# Altium footprint library PCB_MOTELIGHT_RADIO_ED02R2_05022020.PcbLib: 33 footprints (part 2 of 3)
Each footprint in its own frame and in the unit in brackets; x right, y up, seen from the top. Pads: shape width x height; smd on the part's side, far side on the other; paste and mask are expansions set on the pad; w line width, h text height; cw(c..) or ccw(c..) is an arc to the next point about the centre after c.
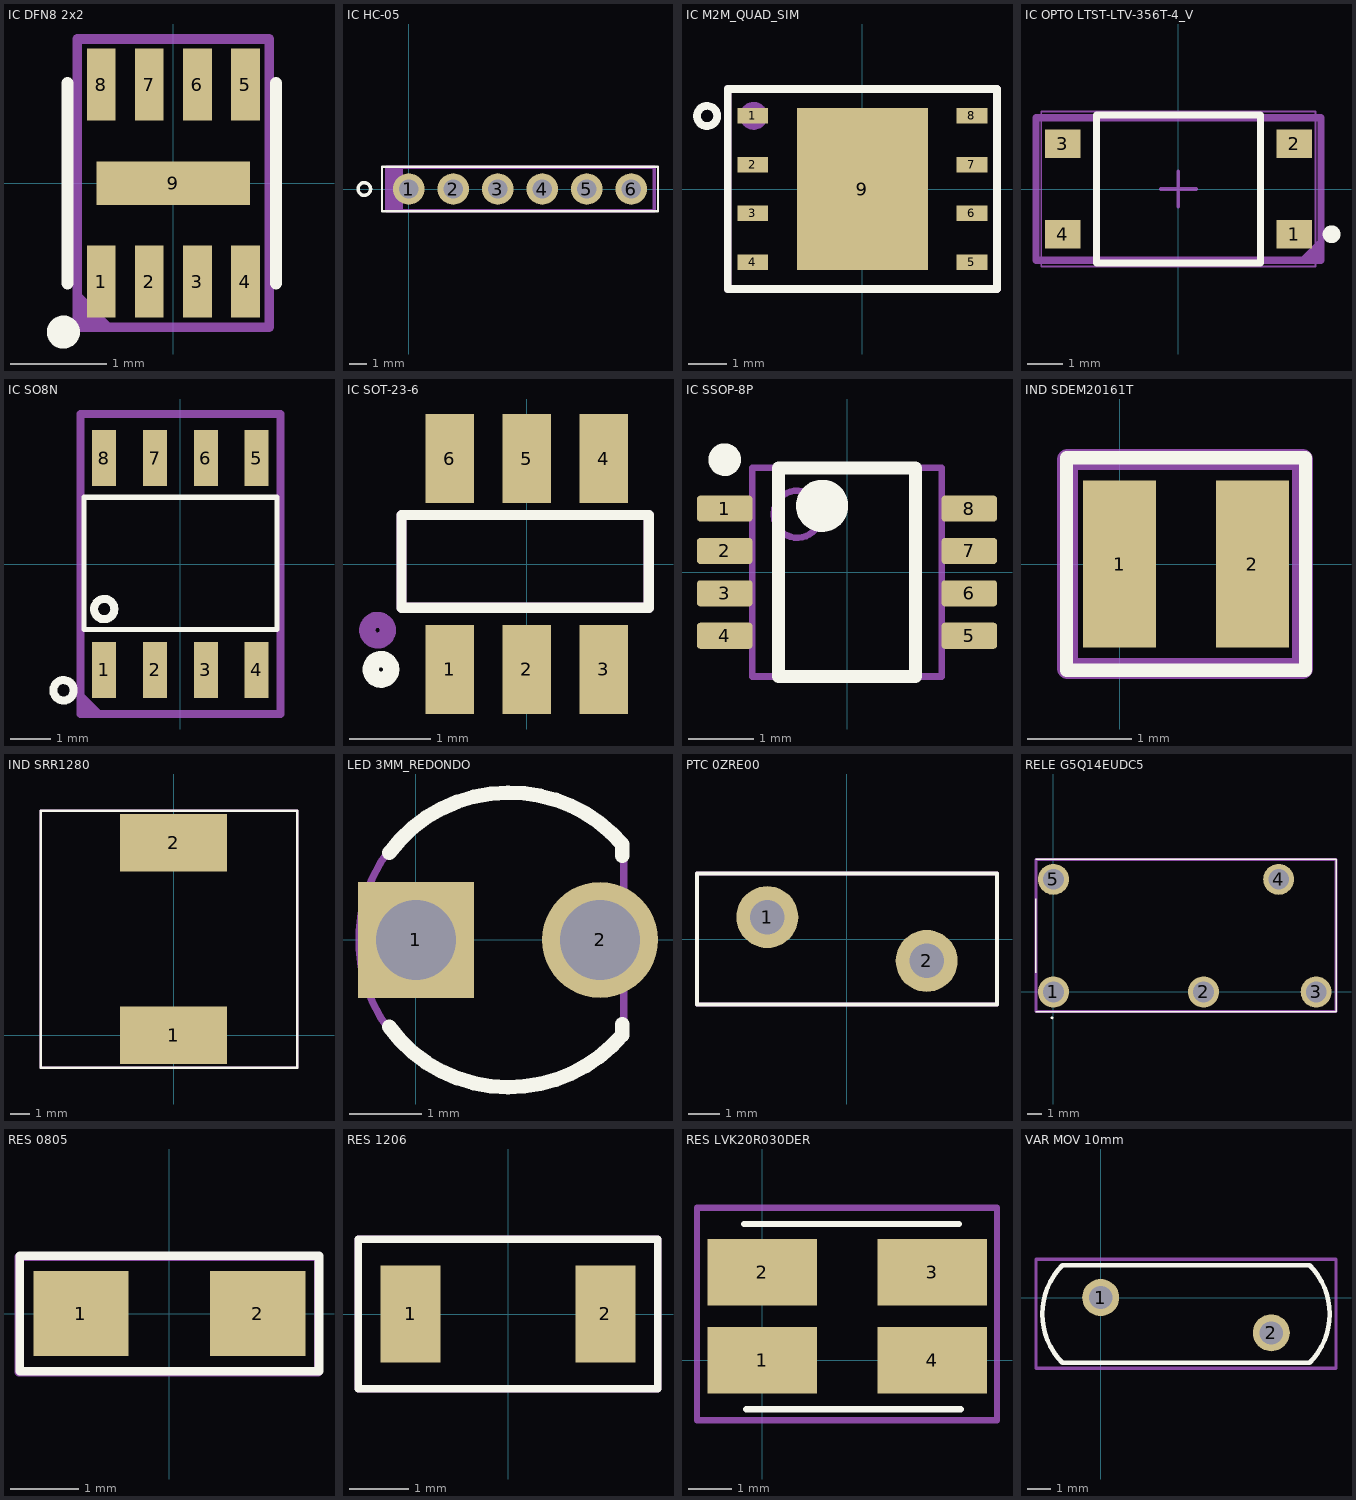
[diagram p1: the footprints below, top view; thin cyan lines are the x and y axes]

## IC DFN8 2x2 [mm] "DFN8 2x2"
pads (9):
  rect 0.3x0.75 smd paste+0 mask+0.025: 1(-0.75,-1.025) 2(-0.25,-1.025) 3(0.25,-1.025) 4(0.75,-1.025) 5(0.75,1.025) 6(0.25,1.025) 7(-0.25,1.025) 8(-0.75,1.025)
  rect 1.6x0.45 smd paste+0 mask+0.025: 9(0,0)
Top Overlay:
  circle w0.2: c-1.143,-1.549 r0.072
  lines w0.127: -1.1,-1.041 -1.1,1.041 ; 1.067,-1.041 1.067,1.041
Top Assembly (Mech29):
  region: -1,-1.5 -0.613,-1.5 -0.991,-1.122 -1,-1.122
  region: 0.25,1.5
  lines w0.1: -1,-1.5 1,-1.5 1,1.5 -1,1.5 -1,-1.5
3D body: height 1, standoff 0.25, extent -1.1,-1.041 1.067,1.041

## IC HC-05 [mm] "FOOTPRINT DO MODULO HC-05 BLUETOOTH"
pads (6):
  round 1.8 hole 1.1 paste+0 mask+0.025: 1(0,0) 2(2.54,0) 3(5.08,0) 4(7.62,0) 5(10.16,0) 6(12.7,0)
Top Overlay:
  circle w0.2: c-2.54,0 r0.359
  lines w0.127: -1.524,-1.27 14.224,-1.27 14.224,1.27 -1.524,1.27 -1.524,-1.27
Top Assembly (Mech29):
  region: -1.25,1.25 -0.344,1.25 -0.344,-1.25 -1.25,-1.25
  lines w0.2: -1.25,-1.25 -1.25,1.25 14,1.25 14,-1.25 -1.25,-1.25
  text "'.Designator'" at 1.021,-0.432 h1.27

## IC M2M_QUAD_SIM [mil]
height 39.37
pads (9):
  rect 31.5x15.75 smd mask+1.97: 1(-112.2,75) 2(-112.2,25) 3(-112.2,-25) 4(-112.2,-75) 5(112.2,-75) 6(112.2,-25) 7(112.2,25) 8(112.2,75)
  rect 133.86x165.35 smd paste-32.67 mask+2.33: 9(0,0)
Top Overlay:
  circle w7.87: c-158.94,74.74 r10.34
  lines w7.87: -137.8,-102.36 137.8,-102.36 137.8,102.36 -137.8,102.36 -137.8,-102.36
Top Assembly (Mech29):
  circle w7.87: c-111.31,74.87 r10.34
  lines w7.87: -137.8,-102.36 -137.8,102.36 137.8,102.36 137.8,-102.36 -137.8,-102.36
  text "'.Designator'" at -123,-60 h118.11

## IC OPTO LTST-LTV-356T-4_V [mm]
pads (4):
  rect 1x0.8 smd: 1(3.25,-1.27) 2(3.25,1.27) 3(-3.25,1.27) 4(-3.25,-1.27)
Top Overlay:
  circle w0.25: c4.3,-1.27 r0.125
  lines w0.2: -2.3,-2.075 2.3,-2.075 2.3,2.075 -2.3,2.075 -2.3,-2.075
Mechanical 13:
  lines w0.1: -2.3,-2.075 -2.3,2.075 2.3,2.075 2.3,-2.075 -2.3,-2.075
Mechanical 15:
  lines w0.05: -3.85,-2.175 3.85,-2.175 3.85,2.175 -3.85,2.175 -3.85,-2.175
  lines w0.1: -0.5,0 0.5,0 ; 0,-0.5 0,0.5
Top Assembly (Mech29):
  region: 3.366,-2 4,-1.366 4,-2
  lines w0.2: -4,-2 -4,2 4,2 4,-2 -4,-2
3D body: height 2.32, standoff 0, extent -2.3,-2.075 2.3,2.075

## IC SO8N [mm] "SOIC 8 PINS"
pads (8):
  rect 0.6x1.4 smd paste+0 mask+0.025: 1(-1.905,-2.65) 2(-0.635,-2.65) 3(0.635,-2.65) 4(1.905,-2.65) 5(1.905,2.65) 6(0.635,2.65) 7(-0.635,2.65) 8(-1.905,2.65)
Top Overlay:
  circle w0.2: c-2.921,-3.158 r0.254
  circle w0.2: c-1.905,-1.126 r0.254
  lines w0.127: -2.413,-1.634 2.413,-1.634 2.413,1.668 -2.413,1.668 -2.413,-1.634
Top Assembly (Mech29):
  region: -2.5,-3.155 -1.905,-3.75 -2.5,-3.75
  lines w0.2: 2.5,2.519 2.5,3.75 -2.5,3.75 -2.5,3.5 -2.5,-3.75 2.5,-3.75 2.5,3.5
  text "'.Designator'" at -1.011,-0.432 h1.27
3D body "SO8N.STEP": height 1.63, standoff 0.01, extent -2.435,-3.059 2.485,2.941

## IC SOT-23-6 [mm]
pads (6):
  rect 0.6x1.1 smd paste+0 mask+0.025: 1(-0.95,-1.3) 2(0,-1.3) 3(0.95,-1.3) 4(0.95,1.3) 5(0,1.3) 6(-0.95,1.3)
Top Overlay:
  circle w0.2: c-1.798,-1.3 r0.127
  lines w0.127: -1.544,-0.538 1.504,-0.538 1.504,0.605 -1.544,0.605 -1.544,-0.538
Top Assembly (Mech29):
  circle w0.2: c-1.839,-0.816 r0.127
  lines w0.127: -1.544,-0.538 -1.544,0.605 1.504,0.605 1.504,-0.538 -1.544,-0.538
  text "'.Designator'" at -1.519,-0.432 h1.27

## IC SSOP-8P [mm]
pads (8):
  rrect25% 0.85x0.4 smd mask+0.025: 1(-1.875,0.975) 2(-1.875,0.325) 3(-1.875,-0.325) 4(-1.875,-0.975) 5(1.875,-0.975) 6(1.875,-0.325) 7(1.875,0.325) 8(1.875,0.975)
Top Overlay:
  circle w0.4: c-0.381,1.016 r0.2
  circle w0.25: c-1.875,1.725 r0.125
  lines w0.2: -1.05,-1.6 1.05,-1.6 1.05,1.6 -1.05,1.6 -1.05,-1.6
Top Assembly (Mech29):
  circle w0.1: c-0.762,0.889 r0.361
  lines w0.1: -1.45,-1.6 -1.45,1.6 1.45,1.6 1.45,-1.6 -1.45,-1.6
  text "'.Designator'" at -1.362,-0.473 h1.27
3D body "DCT0008A.stp": height 1.3, standoff 0, extent -2.011,-1.475 2.011,1.475

## IND SDEM20161T [mm] "SDEM Series"
pads (2):
  rect 0.7x1.6 smd paste+0 mask+0.025: 1(0,0) 2(1.27,0)
Top Overlay:
  lines w0.127: -0.508,-1.016 1.778,-1.016 1.778,1.016 -0.508,1.016 -0.508,-1.016
Top Assembly (Mech29):
  lines w0.2: -0.5,-1 1.75,-1 1.75,1 -0.5,1 -0.5,-1
  text "'.Designator'" at -0.503,-0.432 h1.27

## IND SRR1280 [mm]
height 1
pads (2):
  rect 5.4x2.9 smd paste+0 mask+0.025: 1(0,0) 2(0,9.7)
Top Overlay:
  lines w0.127: -6.68,-1.626 -6.68,11.303 6.223,11.303 6.223,-1.626 -6.68,-1.626
Top Assembly (Mech29):
  lines w0.127: -6.68,-1.626 6.223,-1.626 6.223,11.303 -6.68,11.303 -6.68,-1.626
  text "'.Designator'" at -5.615,3.631 h3
3D body "70146.stp": height 7.51, standoff 0.01, extent -6.5,-1.411 6,11.089

## LED 3MM_REDONDO [mm]
pads (2):
  rect 1.6x1.6 hole 1.1 mask+0.025: 1(0,0)
  round 1.6 hole 1.1 mask+0.025: 2(2.54,0)
Top Overlay:
  lines w0.2: -0.37,-1.2 ccw(c1.27,0) 1.27,-2.032 ccw(c1.282,0.025) 2.845,-1.313 ; -0.37,1.2 cw(c1.27,0) 1.27,2.032 cw(c1.298,-0.005) 2.845,1.321 ; 2.845,-1.295 2.845,-1.161 ; 2.845,1.161 2.845,1.295
Top Assembly (Mech29):
  lines w0.1: 2.868,-1.295 cw(c1.27,0) 2.868,1.295 2.868,-1.295
  text "'.Designator'" at -0.757,-0.432 h1.27
3D body: height 6.35, standoff 3.27, extent -0.259,-1.538 2.811,1.538
3D body: height 2.19, standoff 1.05, extent -0.787,-2.066 2.868,2.066
3D body: height 4.81, standoff 1.05, extent -0.27,-1.54 2.81,1.54

## PTC 0ZRE00 [mm] "PTC FUSIVEL RESSETAVEL"
pads (2):
  round 1.98 hole 1.1 paste+0 mask+0.025: 1(-2.55,0.7) 2(2.55,-0.7)
Top Overlay:
  lines w0.127: -4.8,-2.1 4.8,-2.1 4.8,2.1 -4.8,2.1 -4.8,-2.1
Top Assembly (Mech29):
  lines w0.127: -4.8,-2.1 4.8,-2.1 4.8,2.1 -4.8,2.1 -4.8,-2.1
  text "'.Designator'" at -4.648,-1.143 h3
3D body "Fusivel_Passo_200mils.stp": height 21, standoff -10.1, extent -7.102,-1.425 6.898,1.575

## RELE G5Q14EUDC5 [mm]
height 1
pads (5):
  round 2.1 hole 1.4: 1(0,0) 2(10.16,0) 3(17.78,0) 4(15.24,7.62) 5(0,7.62)
Top Overlay:
  lines w0.1: -1.18,-1.34 19.12,-1.34 19.12,8.96 -1.18,8.96 ; -1.18,1.31 -1.18,6.31 ; -0.1,-1.8 ccw(c-0.1,-1.75) -0.1,-1.7 ccw(c-0.1,-1.75) -0.1,-1.8
Top Assembly (Mech29):
  lines w0.2: -1.18,-1.34 -1.18,8.96 19.12,8.96 19.12,-1.34 -1.18,-1.34
  text "'.Designator'" at 0.94,2.54 h3
3D body "G5Q-14_DC12.stp": height 16.2, standoff -5, extent -1.18,-1.34 19.12,8.96

## RES 0805 [mm] "RESISTOR 0805"
height 1
pads (2):
  rect 1.4x1.25 smd mask+0.1: 1(-1.3,0) 2(1.3,0)
Top Overlay:
  lines w0.127: -2.2,-0.85 2.2,-0.85 2.2,0.85 -2.2,0.85 -2.2,-0.85
Top Assembly (Mech29):
  lines w0.127: -2.21,-0.864 -2.21,0.836 2.19,0.836 2.19,-0.864 -2.21,-0.864
  text "'.Designator'" at -1.524,-0.254 h1.27
3D body "RESISTOR 0805b.step": height 0.77, standoff 0.01, extent -1.15,-0.675 1.15,0.675

## RES 1206 [mm] "RESISTOR 1206"
height 1
pads (2):
  rect 1.02x1.65 smd mask+0.1: 1(-1.65,0) 2(1.65,0)
Top Overlay:
  lines w0.127: -2.54,-1.27 -2.54,1.27 2.54,1.27 2.54,-1.27 -2.54,-1.27
Top Assembly (Mech29):
  lines w0.127: -2.54,-1.27 -2.54,1.27 2.54,1.27 2.54,-1.27 -2.54,-1.27
  text "'.Designator'" at -2.311,-0.356 h1.27
3D body "RESISTOR 1206.step": height 0.57, standoff 0.01, extent -1.6,-0.83 1.6,0.83

## RES LVK20R030DER [mm] "RESISTOR SHUNT 2010"
pads (4):
  rect 2.55x1.55 smd paste+0 mask+0.102: 1(0,0) 2(0,2.05) 3(3.95,2.05) 4(3.95,0)
Top Overlay:
  lines w0.15: -0.428,3.175 4.572,3.175 ; -0.381,-1.143 4.619,-1.143
Top Assembly (Mech29):
  lines w0.15: -1.524,-1.397 -1.524,3.556 5.461,3.556 5.461,-1.397 -1.524,-1.397
  text "'.Designator'" at -1.27,1.016 h2
3D body "2010_RES.stp": height 0.58, standoff -0.03, extent -0.468,-0.107 4.532,2.393

## VAR MOV 10mm [mm] "VARISTOR DISCO 10mm"
pads (2):
  round 1.6 hole 1 unplated paste+0 mask+0.025: 1(0,0) 2(7.366,-1.524)
Top Overlay:
  lines w0.2: -1.651,-2.818 cw(c0.456,-0.71) -1.651,1.397 9.017,1.397 cw(c6.91,-0.71) 9.017,-2.818 -1.651,-2.818
Top Assembly (Mech29):
  lines w0.15: -2.794,-3.048 -2.794,1.651 10.16,1.651 10.16,-3.048 -2.794,-3.048
  text "'.Designator'" at -1.016,-1.016 h2
3D body "45938.stp": height 16.25, standoff -21.25, extent -2.594,-2.869 9.906,1.345